# Altium schematic symbol library MP2637GR-Z.SchLib: 1 symbol
Pins are listed as number, name and electrical type; pins without a type are passive.

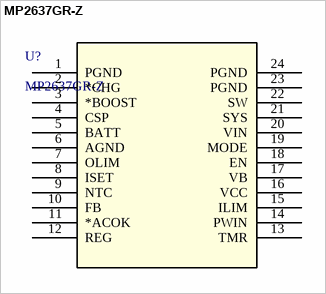
[diagram p0: symbol MP2637GR-Z]

## MP2637GR-Z
designator U?
2.5A Single Cell Switch Mode Battery Charger with Power Path Management (PPM) and 2.4A Boost Current with Trickle Timer; Manufacturer_Name: Monolithic Power Systems; Copyright: Copyright (C) 2025 Ultra Librarian. All rights reserved.; Manufacturer_Part_Number: MP2637GR-Z; Datasheet: https://www.monolithicpower.com/en/documentview/productdocument/index/version/2/document_type/Datasheet/lang/en/sku/MP2637GR-Z; RefDes: RefDes; Type: Type
footprint QFN-24_MP2637_MNP
pins: 1 PGND (power), 2 *CHG, 3 *BOOST, 4 CSP, 5 BATT, 6 AGND (power), 7 OLIM, 8 ISET, 9 NTC, 10 FB, 11 *ACOK, 12 REG, 13 TMR, 14 PWIN, 15 ILIM, 16 VCC (power), 17 VB, 18 EN, 19 MODE, 20 VIN (power), 21 SYS, 22 SW, 23 PGND (power), 24 PGND (power)